# Altium integrated library lib_robotronik26092013.IntLib: 23 symbols
Pins are listed as number, name and electrical type; pins without a type are passive.

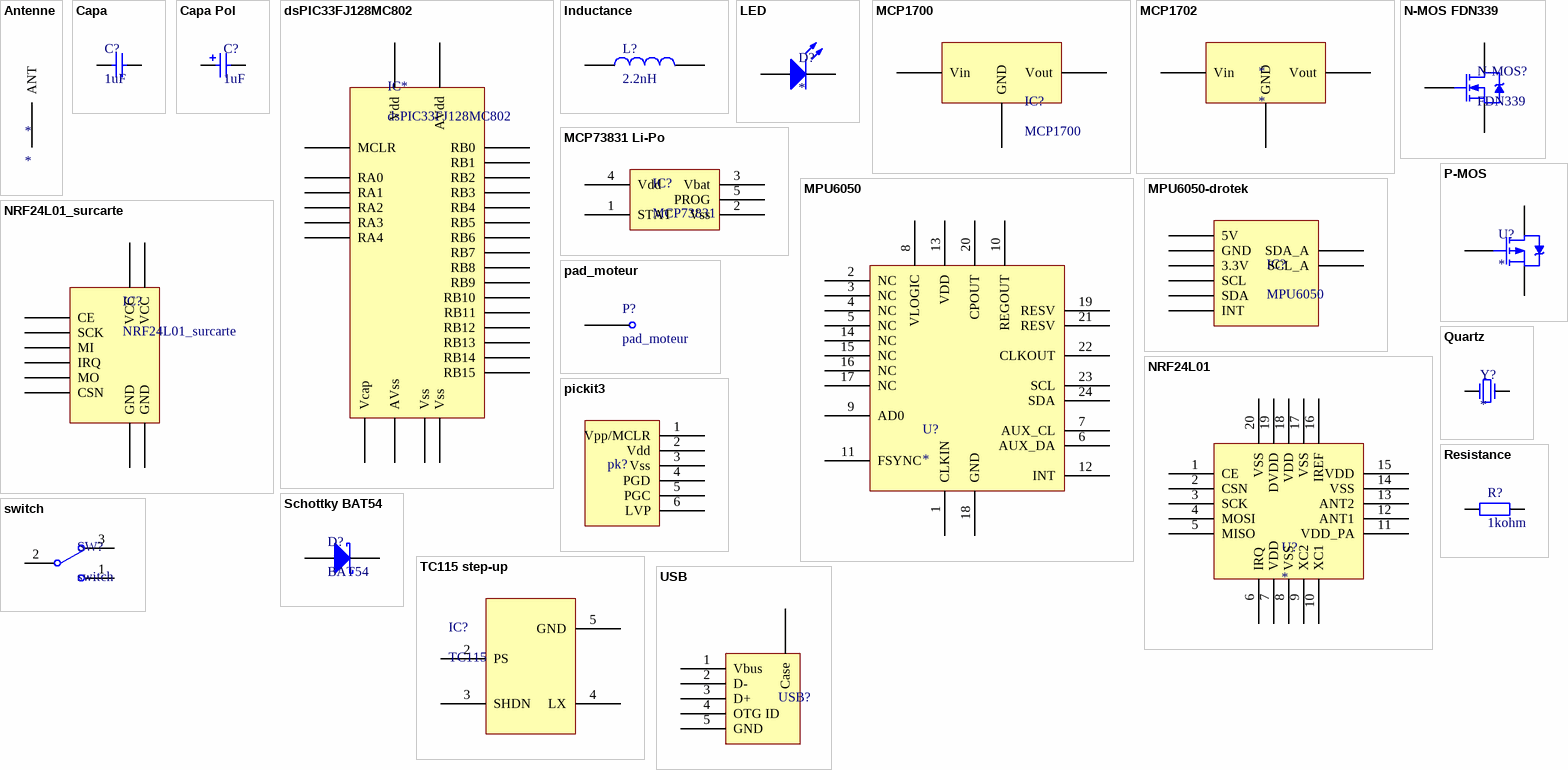
[diagram p0: symbols Antenne to USB]

## Antenne
designator *
footprint Antene
pins: 1 ANT

## Capa
designator C?, comment 1uF
footprint cms805
footprint Capa_plastique
footprint Capa_ceramique1
pins: 1, 2

## Capa Pol
designator C?, comment 1uF
footprint Capa_pol1
footprint Capa_Pol2
pins: 1, 2

## dsPIC33FJ128MC802
designator IC*
footprint SOIC28(300mil)
footprint 28QFN-S; pin to pad 1>26 2>27 3>28 4>1 5>2 6>3 7>4 8>5 9>6 10>7 11>8 12>9 13>10 14>11 15>12 16>13 17>14 18>15 19>16 20>17 21>18 22>19 23>20 24>21 25>22 26>23 27>24 28>25
pins: 1 MCLR, 2 RA0, 3 RA1, 4 RB0, 5 RB1, 6 RB2, 7 RB3, 8 Vss, 9 RA2, 10 RA3, 11 RB4, 12 RA4, 13 Vdd, 14 RB5, 15 RB6, 16 RB7, 17 RB8, 18 RB9, 19 Vss, 20 Vcap, 21 RB10, 22 RB11, 23 RB12, 24 RB13, 25 RB14, 26 RB15, 27 AVss, 28 AVdd

## Inductance
designator L?, comment 2.2nH
footprint cms805
footprint CMS402
pins: 1, 2

## LED
designator D?
footprint cms1206
footprint Led_5mm
pins: 1 A, 2 K

## MCP1700
designator IC?
footprint SOT89
pins: 1 GND, 2 Vin, 3 Vout

## MCP1702
designator *
footprint TO92
pins: 1 GND, 2 Vin, 3 Vout

## MCP73831 Li-Po
designator IC?, comment MCP73831
footprint SOT23-5
pins: 1 STAT, 2 Vss, 3 Vbat, 4 Vdd, 5 PROG

## MPU6050
designator U?
footprint 24QFN
pins: 1 CLKIN, 2 NC, 3 NC, 4 NC, 5 NC, 6 AUX_DA, 7 AUX_CL, 8 VLOGIC, 9 AD0, 10 REGOUT, 11 FSYNC, 12 INT, 13 VDD, 14 NC, 15 NC, 16 NC, 17 NC, 18 GND, 19 RESV, 20 CPOUT, 21 RESV, 22 CLKOUT, 23 SCL, 24 SDA

## MPU6050-drotek
designator IC?, comment MPU6050
footprint MPU6050_drotek
pins: 1 5V, 2 GND, 3 3.3V, 4 SCL, 5 SDA, 6 INT, 7 SDA_A, 8 SCL_A

## N-MOS FDN339
designator N-MOS?, comment FDN339
footprint SuperSOT
pins: 1 G, 2 D, 3 S

## NRF24L01
designator U?
footprint 20QFN
pins: 1 CE, 2 CSN, 3 SCK, 4 MOSI, 5 MISO, 6 IRQ, 7 VDD, 8 VSS, 9 XC2, 10 XC1, 11 VDD_PA, 12 ANT1, 13 ANT2, 14 VSS, 15 VDD, 16 IREF, 17 VSS, 18 VDD, 19 DVDD, 20 VSS

## NRF24L01_surcarte
designator IC?
footprint NRF24L01
pins: 1 VCC, 2 CE, 3 SCK, 4 MI, 5 GND, 6 GND, 7 IRQ, 8 MO, 9 CSN, 10 VCC

## P-MOS
designator U?
footprint SOT23
pins: 1 G, 2 D, 3 S

## pad_moteur
designator P?
footprint PAD
pins: 1

## pickit3
designator pk?
footprint pickit3
pins: 1 Vpp/MCLR, 2 Vdd, 3 Vss, 4 PGD, 5 PGC, 6 LVP

## Quartz
designator Y?
footprint Quartz
pins: 1, 2

## Resistance
designator R?, comment 1kohm
footprint cms805
footprint traversant 1/4W
pins: 1, 2

## Schottky BAT54
designator D?, comment BAT54
footprint SOT23
pins: 1 A, 2 K

## switch
designator SW?
footprint inverseur
pins: 1, 2, 3

## TC115 step-up
designator IC?, comment TC115
footprint SOT89-5
pins: 1 NC hidden, 2 PS, 3 SHDN, 4 LX, 5 GND

## USB
designator USB?
footprint USB_con
pins: 0 Case, 1 Vbus, 2 D-, 3 D+, 4 OTG ID, 5 GND